# Altium schematic symbol library Schlib1.SchLib: 19 symbols
Pins are listed as number, name and electrical type; pins without a type are passive.

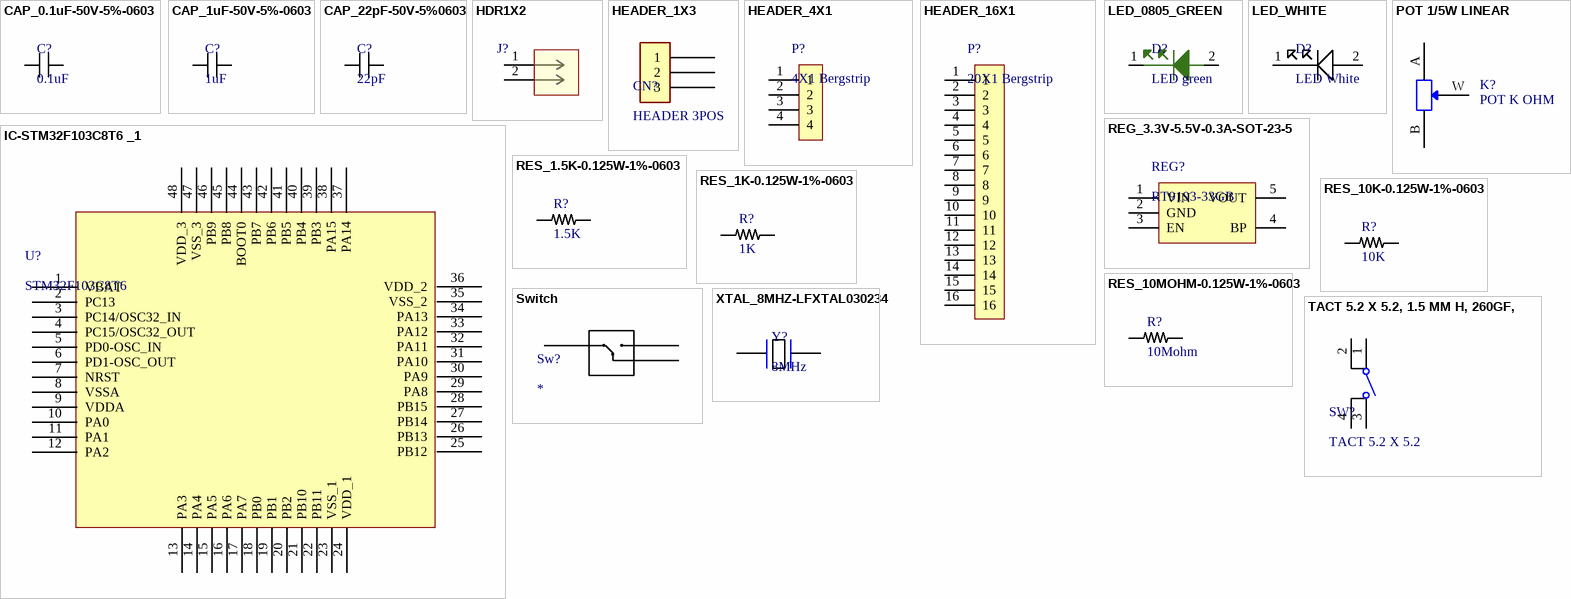
[diagram p0: symbols CAP_0.1uF-50V-5%-0603 to XTAL_8MHZ-LFXTAL030234]

## CAP_0.1uF-50V-5%-0603
designator C?, comment 0.1uF
0.1µF ±5% 50V Ceramic Capacitor X7R 0603; Manufacturer: KEMET; Manufacturing Part Number: C0805C104J5RACTU; Case/Package: 0603; Supplier-1: Digikey; Supplier Part Number-1: 399-1171-1-ND
footprint C_SMD_0603
pins: 1, 2

## CAP_1uF-50V-5%-0603
designator C?, comment 1uF
1µF ±5% 50V Ceramic Capacitor X7R0603; Manufacturer: Yageo; Manufacturing Part Number: CC0805JKX7R9BB105; Case/Package: 0603; Supplier-1: Digikey; Supplier Part Number-1: 311-3498-1-ND
footprint C_SMD_0603
pins: 1, 2

## CAP_22pF-50V-5%0603
designator C?, comment 22pF
22pF ±5% 50V Ceramic Capacitor C0G, NP0 0603; Manufacturer: KEMET; Manufacturer Part Number: C0805C220J5GACTU; Case/Package: 0603; Supplier-1: Digikey; Supplier Part Number-1: 399-1113-1-ND
footprint C_SMD_0603
pins: 1, 2

## HDR1X2
designator J?, comment Header 2x1  (value not drawn)
Mfr_Name: Wurth Electronics; RefDes: RefDes; Type: Type
footprint HDR1X2
pins: 1, 2

## HEADER_1X3
designator CN?, comment HEADER 3POS
Conector barra de pinos Furo passante, 3 posições (2,54mm); Item: HEADER MACHO 3POS
footprint HDR1X3 (Conector header macho 3 vias)
pins: 1, 2, 3

## HEADER_4X1
designator P?, comment 4X1 Bergstrip
4 pin, 1 row, 2.54mm pitch bergstrip; Manufacturer: NA; Manufacturing Part Number: NA; Case/Package: TH; Supplier-1: NA; Supplier Part Number-1: NA
footprint CON4_100_40D72_TH_ST_MALE (Berg Strip)
pins: 1, 2, 3, 4

## HEADER_16X1
designator P?, comment 20X1 Bergstrip
20 pin, 1 row, 2.54mm pitch bergstrip; Manufacturer: NA; Manufacturing Part Number: NA; Case/Package: TH; Supplier-1: NA; Supplier Part Number-1: NA
footprint CON_1X16 (Berg strip)
pins: 1, 2, 3, 4, 5, 6, 7, 8, 9, 10, 11, 12, 13, 14, 15, 16

## IC-STM32F103C8T6 _1
designator U?, comment STM32F103C8T6
ARM® Cortex®-M3 STM32F1 Microcontroller IC 32-Bit 72MHz 64KB (64K x 8) FLASH; Manufacturer: STMicroelectronics; Manufacturer Part Number: STM32F103C8T6; Case/Package: 48-LQFP; Supplier-1: Digikey; Supplier Part Number-1: 497-6063-ND
footprint STM32F103C8T6 (48LQFP)
pins: 1 VBAT, 2 PC13, 3 PC14/OSC32_IN, 4 PC15/OSC32_OUT, 5 PD0-OSC_IN, 6 PD1-OSC_OUT, 7 NRST, 8 VSSA, 9 VDDA, 10 PA0, 11 PA1, 12 PA2, 13 PA3, 14 PA4, 15 PA5, 16 PA6, 17 PA7, 18 PB0, 19 PB1, 20 PB2, 21 PB10, 22 PB11, 23 VSS_1, 24 VDD_1, 25 PB12, 26 PB13, 27 PB14, 28 PB15, 29 PA8, 30 PA9, 31 PA10, 32 PA11, 33 PA12, 34 PA13, 35 VSS_2, 36 VDD_2, 37 PA14, 38 PA15, 39 PB3, 40 PB4, 41 PB5, 42 PB6, 43 PB7, 44 BOOT0, 45 PB8, 46 PB9, 47 VSS_3, 48 VDD_3

## LED_0805_GREEN
designator D?, comment LED green
WL-SMCD SMT Mono-color Chip LED Diffused; Manufacturer: Wurth Electronics; Manufacturer Part Number: 150060VS55040; Lens Style: Flat; Luminous Intensity: 60mcd; Forward Voltage: 2V; Test Current: 20mA; Viewing Angle: 140°; Dominant Wavelength: 573nm; Forward Current: 40mA; Max Reverse Voltage (DC): 5V; Power Dissipation: 48mW; Lens Size: 0.8mm; Encapsulamento: 0603 SMD; Supplier 1: Digikey; RoHS: Yes; Category: LEDs; Stock 1: 10387; Pricing 1: 1=0,19, 10=0,173, 100=0,157, 500=0,141, 1000=0,125 (USD); Mount: Surface Mount; Case/Package: 0603; Color: Green; Case Code (Imperial): 0603; Case Code (Metric): 1608; Min Operating Temperature: -40°C; Max Operating Temperature: 85°C; Packaging: Cut Tape; Lens Transparency: Diffused; Series: WL-SMDC; Reverse Voltage: 5V; Wavelength: 573nm; Length: 1.6mm; Width: 0.8mm; Height: 0.5mm; RoHS Compliant: Yes; ComponentLink1URL: http://www.farnell.com/datasheets/2621647.pdf?src-supplier=Farnell; ComponentLink1Description: http://www.farnell.com/datasheets/2621647.pdf?src-supplier=Farnell; ComponentLink2URL: https://www.we-online.de/web/en/index.php/download/media/07_electronic_components/download_center_1/application_notes_berichte/ano002_leds___the_future_of_horticultural_lighting/ANO002b_EN_LEDs_The_Future_of_Horticultural_Lighting.pdf?src-supplier=Digikey; ComponentLink2Description: https://www.we-online.de/web/en/index.php/download/media/07_electronic_components/download_center_1/application_notes_berichte/ano002_leds___the_future_of_horticultural_lighting/ANO002b_EN_LEDs_The_Future_of_Horticultural_Lighting.pdf?src-supplier=Digikey; ComponentLink3URL: https://katalog.we-online.de/pbs/datasheet/150060VS55040.pdf?src-supplier=Digikey; ComponentLink3Description: https://katalog.we-online.de/pbs/datasheet/150060VS55040.pdf?src-supplier=Digikey; ComponentLink4URL: http://www.farnell.com/datasheets/2621647.pdf?src-supplier=Element14; ComponentLink4Description: http://www.farnell.com/datasheets/2621647.pdf?src-supplier=Element14; ComponentLink5URL: http://www.farnell.com/datasheets/2621647.pdf?src-supplier=Newark; ComponentLink5Description: http://www.farnell.com/datasheets/2621647.pdf?src-supplier=Newark; Supplier Part Number 1: 732-12017-1-ND
footprint LED_0805_GREEN
pins: 1, 2

## LED_WHITE
designator D?, comment LED White
WL-SMCD SMT Mono-color Chip LED Diffused; Manufacturer: Wurth Electronics; Manufacturer Part Number: 150060VS55040; Color: Green; Lens Style: Flat; Luminous Intensity: 60mcd; Forward Voltage: 2V; Test Current: 20mA; Viewing Angle: 140°; Dominant Wavelength: 573nm; Forward Current: 40mA; Max Reverse Voltage (DC): 5V; Power Dissipation: 48mW; Lens Size: 0.8mm; Encapsulamento: 0603 SMD; Supplier 1: Digikey; RoHS: Yes; Category: LEDs; Stock 1: 10387; Pricing 1: 1=0,19, 10=0,173, 100=0,157, 500=0,141, 1000=0,125 (USD); Mount: Surface Mount; Case/Package: 0603; Case Code (Imperial): 0603; Case Code (Metric): 1608; Min Operating Temperature: -40°C; Max Operating Temperature: 85°C; Packaging: Cut Tape; Lens Transparency: Diffused; Series: WL-SMDC; Reverse Voltage: 5V; Wavelength: 573nm; Length: 1.6mm; Width: 0.8mm; Height: 0.5mm; RoHS Compliant: Yes; Supplier Part Number 1: 732-12017-1-ND
footprint LED_WHITE
pins: 1, 2

## POT 1/5W LINEAR
designator K?, comment POT K OHM
Grupo Linear Montagem em Painel Potenciômetro Detentor 1.0 Volta Plástico condutor 0,2W, 1/5W Invólucro de pinos.; Item: POT K OHM LINEAR; Valor: (Valor); ComponentLink1Description: New link; Endereço Gaveteiro: *
footprint POT_LINEAR
pins: A, B, W

## REG_3.3V-5.5V-0.3A-SOT-23-5
designator REG?, comment RT9193-33GB
Linear Voltage Regulator IC 1 Output 300mA SOT-23-5; Manufacturer: Richtek USA Inc.; Manufacturer Part Number: RT9193-33GB; Case/ Package: SOT-23-5; Supplier-1: Digikey; Supplier Part Number-1: 1028-1014-1-ND
footprint SOT23-5 (CASE: SOT)
pins: 1 VIN, 2 GND, 3 EN, 4 BP, 5 VOUT

## RES_1.5K-0.125W-1%-0603
designator R?, comment 1.5K
1.5 kOhms ±1% 0.125W, 1/8W Chip Resistor 0603; Manufacturer: TE Connectivity Passive Product; Manufacturing Part Number: CRG0805F1K5; Case/Package: 0603; Supplier-1: Digikey; Supplier Part Number-1: A106057CT-ND
footprint R_SMD_0603
pins: 1, 2

## RES_1K-0.125W-1%-0603
designator R?, comment 1K
1 kOhms ±1% 0.125W, 1/8W Chip Resisto 0603; Manufacturer: 垈㎵á; Manufacturer Part Number: RC0805FR-071KL; Case/Package: 0603; Supplier-1: Digikey; Supplier Part Number-1: 311-1.00KCRCT-ND
footprint R_SMD_0603
pins: 1, 2

## RES_10K-0.125W-1%-0603
designator R?, comment 10K
10 kOhms ±1% 0.125W, 1/8W Chip Resistor 0603; Manufacturer: Yageo; Manufacturing Part Number: RC0805FR-0710KL; Case/Package: 0603; Supplier-1: Digikey; Supplier Part Number-1: 311-10.0KCRCT-ND
footprint R_SMD_0603
pins: 1, 2

## RES_10MOHM-0.125W-1%-0603
designator R?, comment 10Mohm
10 MOhms ±1% 0.125W, 1/8W Chip Resistor 0603; Manufacturer: Rohm Semiconductor; Manufacturing Part Number: KTR10EZPF1005; Case/Package: 0603; Supplier-1: Digikey; Supplier Part Number-1: RHM10.0MAHCT-ND
footprint R_SMD_0603
pins: 1, 2

## Switch
designator Sw?
footprint Switch
pins: 2, 3, 4

## TACT 5.2 X 5.2, 1.5 MM H, 260GF,
designator SW?, comment TACT 5.2 X 5.2
Interruptor tátil SPST-NA Top atuado Montagem em superfície; Part Number: PTS526 SK15 SMTR2 LFS; Item: TACT 5.2 X 5.2, 1.5 MM H, 260GF,; ComponentLink1Description: New link; ComponentLink1URL: https://www.digikey.com.br/pt/products/detail/c-k/PTS526-SK15-SMTR2-LFS/10056626; Endereço Gaveteiro: *
footprint TACT 5.2 X 5.2, 1.5mm, 160gf
pins: 1, 2, 3, 4

## XTAL_8MHZ-LFXTAL030234
designator Y?, comment 8MHz
Crystals 8MHz 22pF -20C 70C; Manufacturer: IQD Frequency Products; Manufacturing Part Number: LFXTAL030234Reel; Case/Package: SMD; Supplier-1: Mouser; Supplier Part Number-1: 449-LFXTAL030234REEL
footprint XTAL_CRISTAL (8MHz)
pins: 1, 2